# Altium footprint library TD301D485H-AB.PcbLib: 1 footprints
Each footprint in its own frame and in the unit in brackets; x right, y up, seen from the top. Pads: shape width x height; smd on the part's side, far side on the other; paste and mask are expansions set on the pad; w line width, h text height; cw(c..) or ccw(c..) is an arc to the next point about the centre after c.
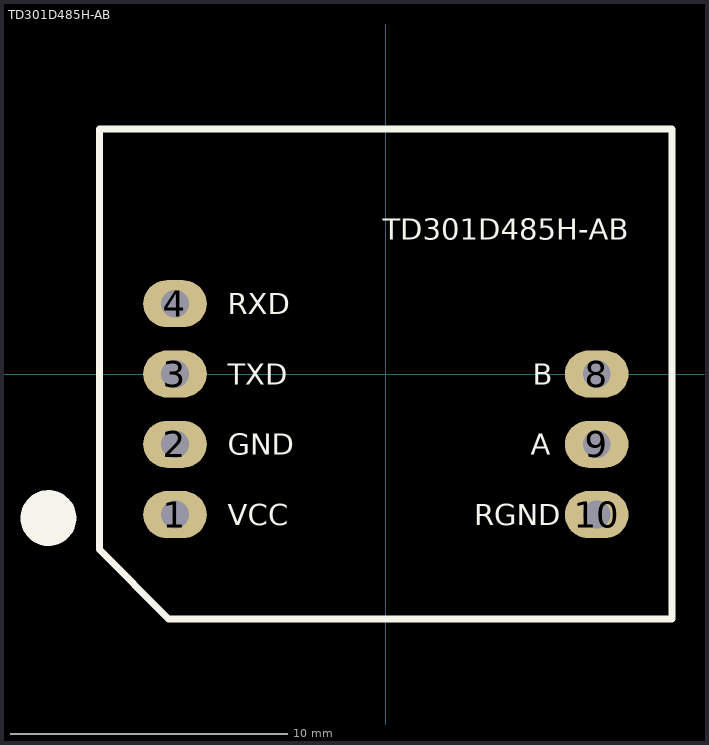
[diagram p0: the footprint, top view; thin cyan lines are the x and y axes]

## TD301D485H-AB [mm]
pads (7):
  oval 2.3x1.7 hole 1: 1(-7.62,-5.08) 2(-7.62,-2.54) 3(-7.62,0) 4(-7.62,2.54) 8(7.62,0) 9(7.62,-2.54) 10(7.62,-5.08)
Top Overlay:
  circle w1.1: c-12.192,-5.207 r0.458
  lines w0.254: -10.35,-6.349 -7.849,-8.85 10.35,-8.85 10.35,8.85 -10.35,8.85 -10.35,-6.349
  text "RXD" at -5.715,2.159 h0.76
  text "TXD" at -5.715,-0.381 h0.76
  text "GND" at -5.715,-2.921 h0.76
  text "VCC" at -5.715,-5.461 h0.76
  text "B" at 5.311,-0.381 h0.76
  text "A" at 5.238,-2.921 h0.76
  text "RGND" at 3.196,-5.461 h0.76
  text "TD301D485H-AB" at -0.111,4.848 h0.76